# EAGLE library part SA*-C167-LM (library micro-siemens)
MICROPROCESSOR/PERIPHERAL DEVICE
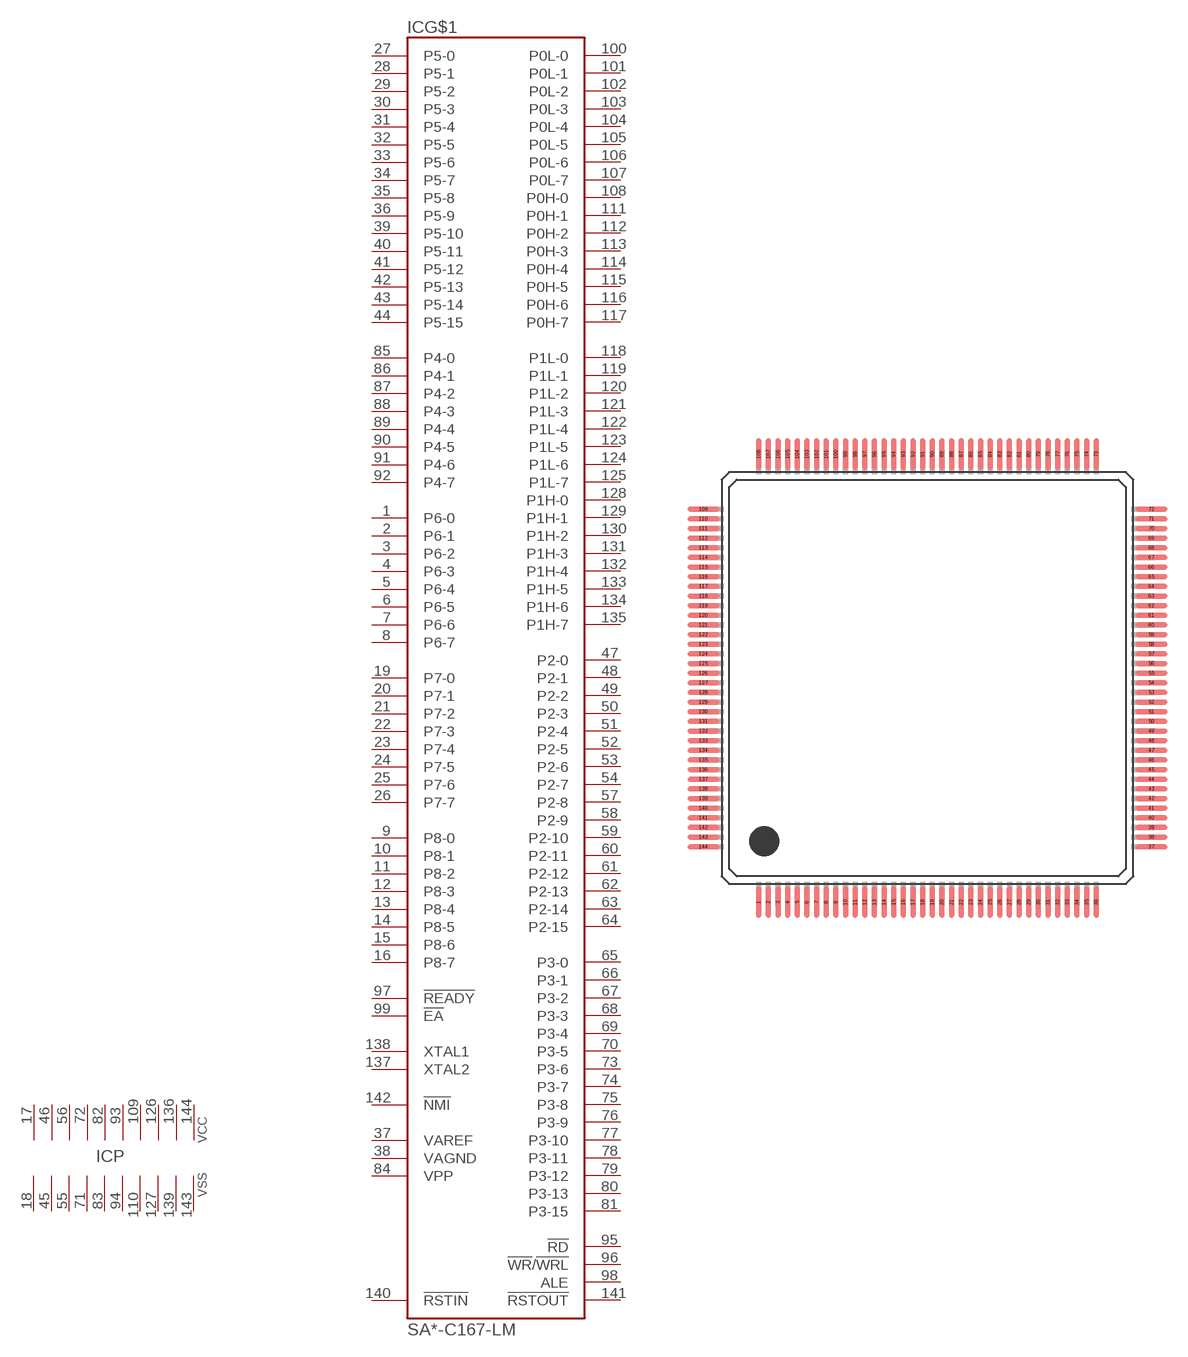
[diagram p65: symbol with the pads of MQFP144-RND; footprint MQFP144-RND]

Designator prefix IC; gates G$1=C167-1 P=10VCCVSS

## SAB-C167-LM (OC_FARNELL: unknown; OC_NEWARK: unknown), SAF-C167-LM (OC_FARNELL: unknown; OC_NEWARK: unknown), SAK-C167-LM (MPN: SAK-C167CR-LM HA; OC_FARNELL: 1220083; OC_NEWARK: 24M7191)  [MQFP144-RND]
1  G$1:P6-0
2  G$1:P6-1
3  G$1:P6-2
4  G$1:P6-3
5  G$1:P6-4
6  G$1:P6-5
7  G$1:P6-6
8  G$1:P6-7
9  G$1:P8-0
10  G$1:P8-1
11  G$1:P8-2
12  G$1:P8-3
13  G$1:P8-4
14  G$1:P8-5
15  G$1:P8-6
16  G$1:P8-7
17  P:VCC  pwr
18  P:VSS  pwr
19  G$1:P7-0
20  G$1:P7-1
21  G$1:P7-2
22  G$1:P7-3
23  G$1:P7-4
24  G$1:P7-5
25  G$1:P7-6
26  G$1:P7-7
27  G$1:P5-0  in
28  G$1:P5-1  in
29  G$1:P5-2  in
30  G$1:P5-3  in
31  G$1:P5-4  in
32  G$1:P5-5  in
33  G$1:P5-6  in
34  G$1:P5-7  in
35  G$1:P5-8  in
36  G$1:P5-9  in
37  G$1:VAREF  pas
38  G$1:VAGND  pas
39  G$1:P5-10  in
40  G$1:P5-11  in
41  G$1:P5-12  in
42  G$1:P5-13  in
43  G$1:P5-14  in
44  G$1:P5-15  in
45  P:VSS  pwr
46  P:VCC  pwr
47  G$1:P2-0
48  G$1:P2-1
49  G$1:P2-2
50  G$1:P2-3
51  G$1:P2-4
52  G$1:P2-5
53  G$1:P2-6
54  G$1:P2-7
55  P:VSS  pwr
56  P:VCC  pwr
57  G$1:P2-8
58  G$1:P2-9
59  G$1:P2-10
60  G$1:P2-11
61  G$1:P2-12
62  G$1:P2-13
63  G$1:P2-14
64  G$1:P2-15
65  G$1:P3-0
66  G$1:P3-1
67  G$1:P3-2
68  G$1:P3-3
69  G$1:P3-4
70  G$1:P3-5
71  P:VSS  pwr
72  P:VCC  pwr
73  G$1:P3-6
74  G$1:P3-7
75  G$1:P3-8
76  G$1:P3-9
77  G$1:P3-10
78  G$1:P3-11
79  G$1:P3-12
80  G$1:P3-13
81  G$1:P3-15
82  P:VCC  pwr
83  P:VSS  pwr
84  G$1:VPP  pas
85  G$1:P4-0
86  G$1:P4-1
87  G$1:P4-2
88  G$1:P4-3
89  G$1:P4-4
90  G$1:P4-5
91  G$1:P4-6
92  G$1:P4-7
93  P:VCC  pwr
94  P:VSS  pwr
95  G$1:!RD  out
96  G$1:!WR!/!WRL  out
97  G$1:!READY  in
98  G$1:ALE  out
99  G$1:!EA  in
100  G$1:P0L-0
101  G$1:P0L-1
102  G$1:P0L-2
103  G$1:P0L-3
104  G$1:P0L-4
105  G$1:P0L-5
106  G$1:P0L-6
107  G$1:P0L-7
108  G$1:P0H-0
109  P:VCC  pwr
110  P:VSS  pwr
111  G$1:P0H-1
112  G$1:P0H-2
113  G$1:P0H-3
114  G$1:P0H-4
115  G$1:P0H-5
116  G$1:P0H-6
117  G$1:P0H-7
118  G$1:P1L-0
119  G$1:P1L-1
120  G$1:P1L-2
121  G$1:P1L-3
122  G$1:P1L-4
123  G$1:P1L-5
124  G$1:P1L-6
125  G$1:P1L-7
126  P:VCC  pwr
127  P:VSS  pwr
128  G$1:P1H-0
129  G$1:P1H-1
130  G$1:P1H-2
131  G$1:P1H-3
132  G$1:P1H-4
133  G$1:P1H-5
134  G$1:P1H-6
135  G$1:P1H-7
136  P:VCC  pwr
137  G$1:XTAL2  out
138  G$1:XTAL1  in
139  P:VSS  pwr
140  G$1:!RSTIN  in
141  G$1:!RSTOUT  out
142  G$1:!NMI  in
143  P:VSS  pwr
144  P:VCC  pwr

## Footprint MQFP144-RND (pad centres in mm)
Metric Quad Flat Pack with rounded pads
smd 0.35 x 2.2: 1 -11.375,-15.1; 2 -10.725,-15.1; 3 -10.075,-15.1; 4 -9.425,-15.1; 5 -8.775,-15.1; 6 -8.125,-15.1; 7 -7.475,-15.1; 8 -6.825,-15.1; 9 -6.175,-15.1; 10 -5.525,-15.1; 11 -4.875,-15.1; 12 -4.225,-15.1; 13 -3.575,-15.1; 14 -2.925,-15.1; 15 -2.275,-15.1; 16 -1.625,-15.1; 17 -0.975,-15.1; 18 -0.325,-15.1; 19 0.325,-15.1; 20 0.975,-15.1; 21 1.625,-15.1; 22 2.275,-15.1; 23 2.925,-15.1; 24 3.575,-15.1; 25 4.225,-15.1; 26 4.875,-15.1; 27 5.525,-15.1; 28 6.175,-15.1; 29 6.825,-15.1; 30 7.475,-15.1; 31 8.125,-15.1; 32 8.775,-15.1; 33 9.425,-15.1; 34 10.075,-15.1; 35 10.725,-15.1; 36 11.375,-15.1; 73 11.375,15.1; 74 10.725,15.1; 75 10.075,15.1; 76 9.425,15.1; 77 8.775,15.1; 78 8.125,15.1; 79 7.475,15.1; 80 6.825,15.1; 81 6.175,15.1; 82 5.525,15.1; 83 4.875,15.1; 84 4.225,15.1; 85 3.575,15.1; 86 2.925,15.1; 87 2.275,15.1; 88 1.625,15.1; 89 0.975,15.1; 90 0.325,15.1; 91 -0.325,15.1; 92 -0.975,15.1; 93 -1.625,15.1; 94 -2.275,15.1; 95 -2.925,15.1; 96 -3.575,15.1; 97 -4.225,15.1; 98 -4.875,15.1; 99 -5.525,15.1; 100 -6.175,15.1; 101 -6.825,15.1; 102 -7.475,15.1; 103 -8.125,15.1; 104 -8.775,15.1; 105 -9.425,15.1; 106 -10.075,15.1; 107 -10.725,15.1; 108 -11.375,15.1
smd 2.2 x 0.35: 37 15.1,-11.375; 38 15.1,-10.725; 39 15.1,-10.075; 40 15.1,-9.425; 41 15.1,-8.775; 42 15.1,-8.125; 43 15.1,-7.475; 44 15.1,-6.825; 45 15.1,-6.175; 46 15.1,-5.525; 47 15.1,-4.875; 48 15.1,-4.225; 49 15.1,-3.575; 50 15.1,-2.925; 51 15.1,-2.275; 52 15.1,-1.625; 53 15.1,-0.975; 54 15.1,-0.325; 55 15.1,0.325; 56 15.1,0.975; 57 15.1,1.625; 58 15.1,2.275; 59 15.1,2.925; 60 15.1,3.575; 61 15.1,4.225; 62 15.1,4.875; 63 15.1,5.525; 64 15.1,6.175; 65 15.1,6.825; 66 15.1,7.475; 67 15.1,8.125; 68 15.1,8.775; 69 15.1,9.425; 70 15.1,10.075; 71 15.1,10.725; 72 15.1,11.375; 109 -15.1,11.375; 110 -15.1,10.725; 111 -15.1,10.075; 112 -15.1,9.425; 113 -15.1,8.775; 114 -15.1,8.125; 115 -15.1,7.475; 116 -15.1,6.825; 117 -15.1,6.175; 118 -15.1,5.525; 119 -15.1,4.875; 120 -15.1,4.225; 121 -15.1,3.575; 122 -15.1,2.925; 123 -15.1,2.275; 124 -15.1,1.625; 125 -15.1,0.975; 126 -15.1,0.325; 127 -15.1,-0.325; 128 -15.1,-0.975; 129 -15.1,-1.625; 130 -15.1,-2.275; 131 -15.1,-2.925; 132 -15.1,-3.575; 133 -15.1,-4.225; 134 -15.1,-4.875; 135 -15.1,-5.525; 136 -15.1,-6.175; 137 -15.1,-6.825; 138 -15.1,-7.475; 139 -15.1,-8.125; 140 -15.1,-8.775; 141 -15.1,-9.425; 142 -15.1,-10.075; 143 -15.1,-10.725; 144 -15.1,-11.375